# Altium schematic symbol library 1074.SchLib: 1 symbol
Pins are listed as number, name and electrical type; pins without a type are passive.

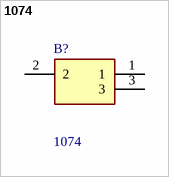
[diagram p0: symbol 1074]

## 1074
designator B?
Coin Cell Battery Holders VERTICAL THM COIN CELL HOLDER; Manufacturer_Name: Keystone Electronics; Geometry.Height: 18.3mm; Manufacturer_Part_Number: 1074; Mouser Part Number: 534-1074; Mouser Price/Stock: https://www.mouser.co.uk/ProductDetail/Keystone-Electronics/1074?qs=u16ybLDytRZ%2FZj7HSRmD5g%3D%3D; Arrow Part Number: *; Arrow Price/Stock: *; Datasheet Link: https://www.keyelco.com/product-pdf.cfm?p=14390
footprint 1074
pins: 1, 2, 3